# Altium schematic symbol library ArduinoMicro.SchLib: 1 symbol
Pins are listed as number, name and electrical type; pins without a type are passive.

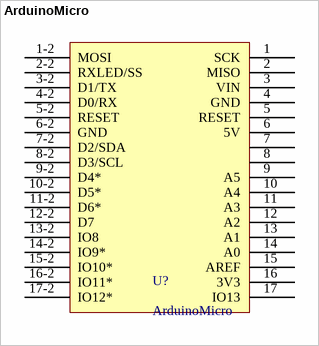
[diagram p0: symbol ArduinoMicro]

## ArduinoMicro
designator U?
footprint ArduinoMicro
pins: 1 SCK, 1-2 MOSI, 2 MISO, 2-2 RXLED/SS, 3 VIN, 3-2 D1/TX, 4 GND, 4-2 D0/RX, 5 RESET, 5-2 RESET, 6 5V, 6-2 GND, 7, 7-2 D2/SDA, 8, 8-2 D3/SCL, 9 A5, 9-2 D4*, 10 A4, 10-2 D5*, 11 A3, 11-2 D6*, 12 A2, 12-2 D7, 13 A1, 13-2 IO8, 14 A0, 14-2 IO9*, 15 AREF, 15-2 IO10*, 16 3V3, 16-2 IO11*, 17 IO13, 17-2 IO12*